# Altium integrated library Cypress Clocks & Buffers Clock Distribution.IntLib: 321 symbols (part 25 of 25)
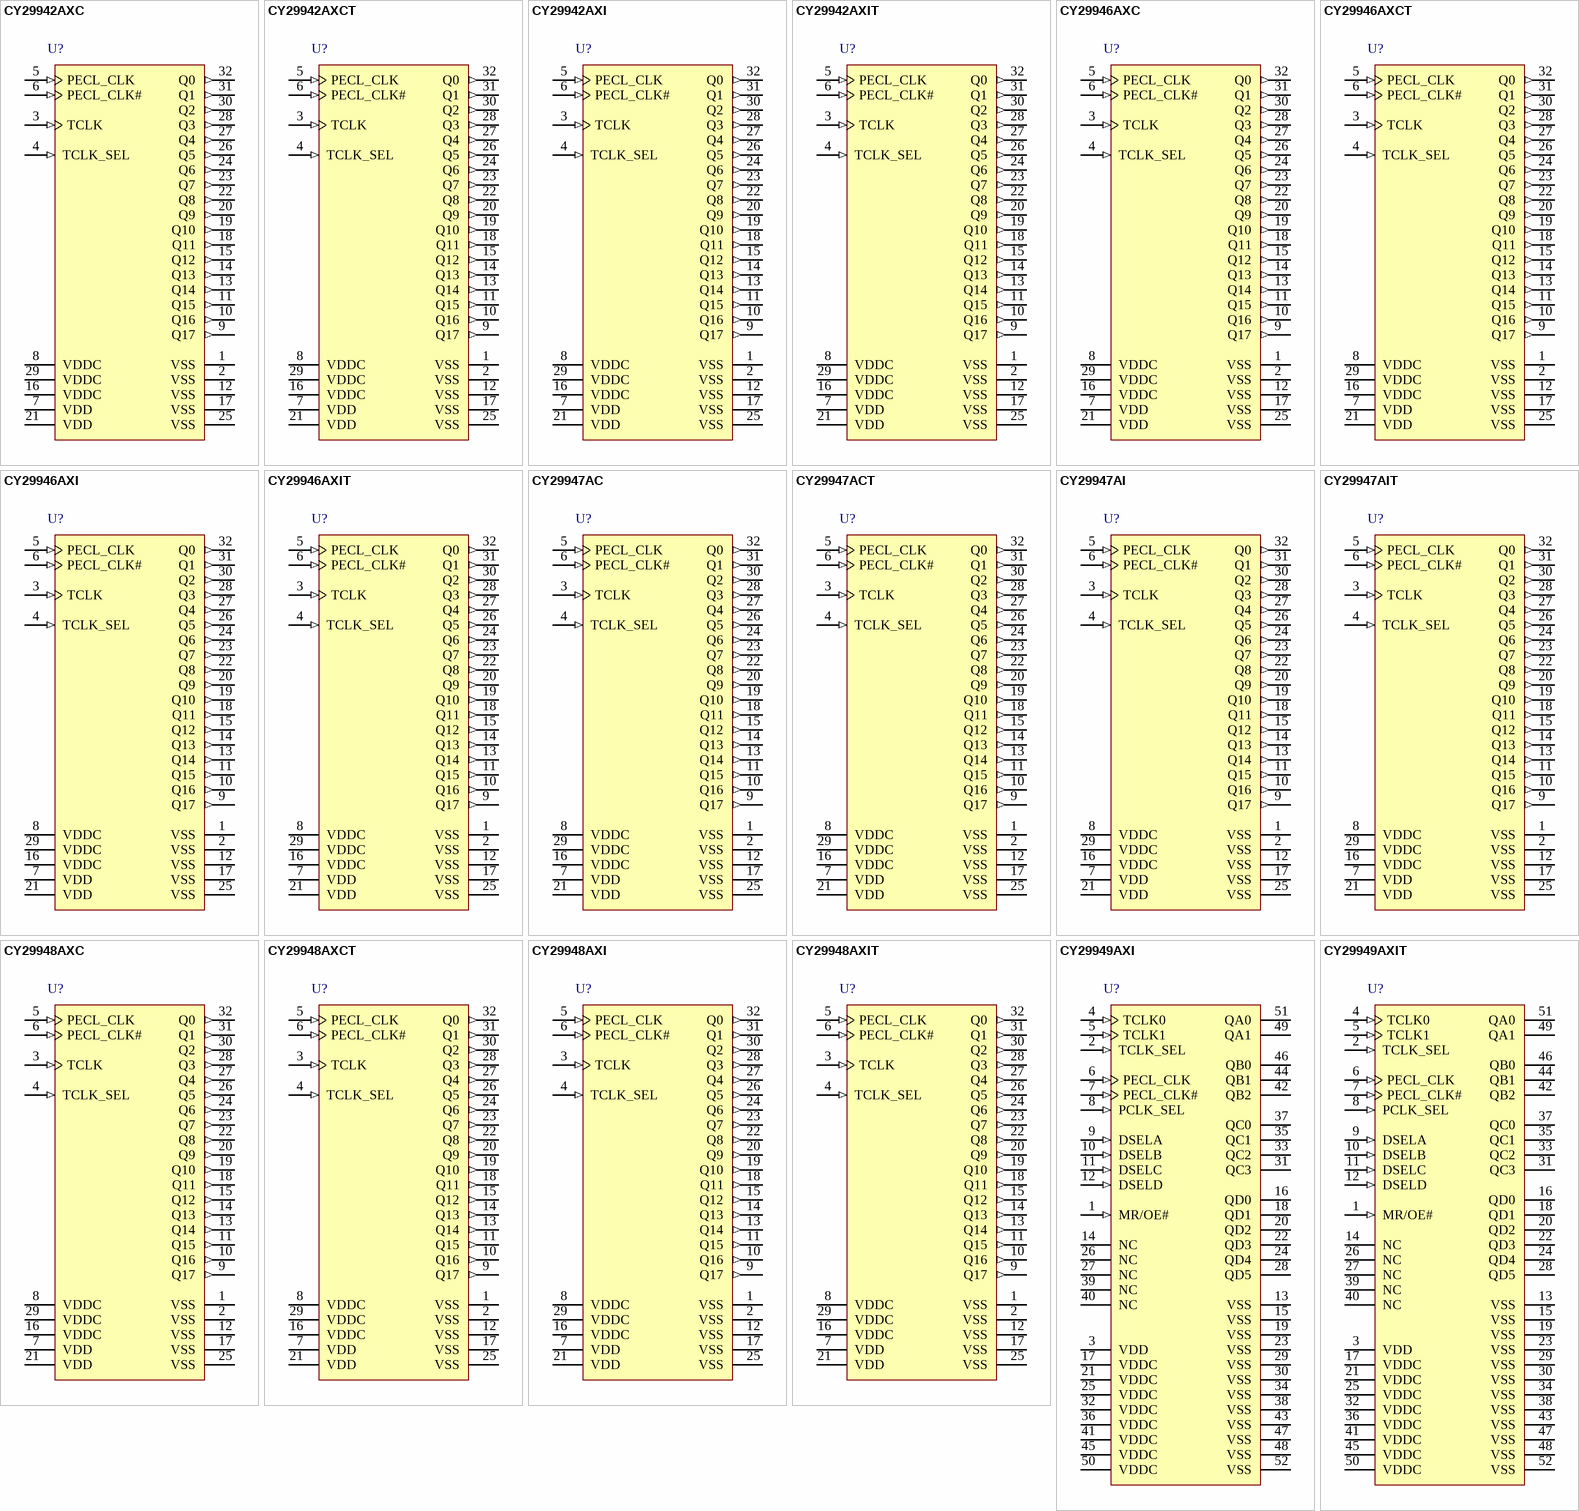
[diagram p40: symbols CY29942AXC to CY29949AXIT]

## CY29949AXI
designator U?
1:15 Clock Distribution Buffer, 2.5 / 3.3 V, 15 Outputs, 200 MHz Maximum, -40 to 85 degC, 52-Pin PLCC (AX52), Tube; Manufacturer: Cypress; PartNumber: CY29949AXI; Input Frequency Max. (MHz): 200; Max. Operating Voltage (V): 3.465; Min. Operating Voltage (V): 2.375; No. of Outputs: 15; DatasheetVersion: Rev. *B; PackageVersion: Rev. *B; PackageReference: AX52; PackageDescription: 52-Pin Thin Plastic Quad Flat Pack, Body 10 x 10 mm, Pitch 0.65 mm; Supplier 1: Digi-Key; Supplier Part Number 1: CY29949AXI-ND; Supplier 2: Mouser; Supplier Part Number 2: 727-CY29949AXI; Max. Operating Temp. (degreesC): 85; Min. Operating Temp. (degreesC): -40; Output Frequency Max. (MHz): 200; Packing: Tube; RoHS: Pb-Free; Mounting Technology: Surface Mount; ComponentLink1Description: Manufacturer URL; ComponentLink1URL: http://www.cypress.com/; ComponentLink2Description: Datasheet; ComponentLink2URL: http://www.cypress.com/?docID=31957; ComponentLink3Description: Package Specification; ComponentLink3URL: http://www.cypress.com/?docID=31957
footprint CYP-AX52_N (QFP, 52-Leads, Body 10x10mm, Pitch 0.65mm, IPC Medium Density)
footprint CYP-AX52_L (QFP, 52-Leads, Body 10x10mm, Pitch 0.65mm, IPC High Density)
footprint CYP-AX52_M (QFP, 52-Leads, Body 10x10mm, Pitch 0.65mm, IPC Low Density)
pins: 1 MR/OE# (in) "Output Enable Input. When asserted LOW, the outputs are enabled and when asserted HIGH, internal flip-flops are reset and the outputs are three-stated. If more than one bank is used in /2 mode, a reset must be performed (See Datasheet)", 2 TCLK_SEL (in) "TCLK Select Input. When LOW, TCLK0 clock is selected and when HIGH TCLK1 is selected.", 3 VDD (power) "2.5 V or 3.3 V Power Supply", 4 TCLK0 (in) "External Reference/Test Clock Input", 5 TCLK1 (in) "External Reference/Test Clock Input", 6 PECL_CLK (in) "PECL Input Clock", 7 PECL_CLK# (in) "PECL Input Clock", 8 PCLK_SEL (in) "PECL Select Input. When HIGH, PECL clock is selected and when LOW TCLK(0,1) is selected", 9 DSELA (in) "Divider Select Inputs. When HIGH, selects /2 input divider. When LOW, selects /1 input divider.", 10 DSELB (in) "Divider Select Inputs. When HIGH, selects /2 input divider. When LOW, selects /1 input divider.", 11 DSELC (in) "Divider Select Inputs. When HIGH, selects /2 input divider. When LOW, selects /1 input divider.", 12 DSELD (in) "Divider Select Inputs. When HIGH, selects /2 input divider. When LOW, selects /1 input divider.", 13 VSS (power) "Common Ground", 14 NC "Not Connected", 15 VSS (power) "Common Ground", 16 QD0 (hiz) "Clock Outputs", 17 VDDC (power) "2.5 V or 3.3 V Power Supply for Output Clock Buffers", 18 QD1 (hiz) "Clock Outputs", 19 VSS (power) "Common Ground", 20 QD2 (hiz) "Clock Outputs", 21 VDDC (power) "2.5 V or 3.3 V Power Supply for Output Clock Buffers", 22 QD3 (hiz) "Clock Outputs", 23 VSS (power) "Common Ground", 24 QD4 (hiz) "Clock Outputs", 25 VDDC (power) "2.5 V or 3.3 V Power Supply for Output Clock Buffers", 26 NC "Not Connected", 27 NC "Not Connected", 28 QD5 (hiz) "Clock Outputs", 29 VSS (power) "Common Ground", 30 VSS (power) "Common Ground", 31 QC3 (hiz) "Clock Outputs", 32 VDDC (power) "2.5 V or 3.3 V Power Supply for Output Clock Buffers", 33 QC2 (hiz) "Clock Outputs", 34 VSS (power) "Common Ground", 35 QC1 (hiz) "Clock Outputs", 36 VDDC (power) "2.5 V or 3.3 V Power Supply for Output Clock Buffers", 37 QC0 (hiz) "Clock Outputs", 38 VSS (power) "Common Ground", 39 NC "Not Connected", 40 NC "Not Connected", 41 VDDC (power) "2.5 V or 3.3 V Power Supply for Output Clock Buffers", 42 QB2 (hiz) "Clock Outputs", 43 VSS (power) "Common Ground", 44 QB1 (hiz) "Clock Outputs", 45 VDDC (power) "2.5 V or 3.3 V Power Supply for Output Clock Buffers", 46 QB0 (hiz) "Clock Outputs", 47 VSS (power) "Common Ground", 48 VSS (power) "Common Ground", 49 QA1 (hiz) "Clock Outputs", 50 VDDC (power) "2.5 V or 3.3 V Power Supply for Output Clock Buffers", 51 QA0 (hiz) "Clock Outputs", 52 VSS (power) "Common Ground"

## CY29949AXIT
designator U?
1:15 Clock Distribution Buffer, 2.5 / 3.3 V, 15 Outputs, 200 MHz Maximum, -40 to 85 degC, 52-Pin PLCC (AX52), Tape and Reel; Manufacturer: Cypress; PartNumber: CY29949AXIT; Input Frequency Max. (MHz): 200; Max. Operating Voltage (V): 3.465; Min. Operating Voltage (V): 2.375; No. of Outputs: 15; DatasheetVersion: Rev. *B; PackageVersion: Rev. *B; PackageReference: AX52; PackageDescription: 52-Pin Thin Plastic Quad Flat Pack, Body 10 x 10 mm, Pitch 0.65 mm; Supplier 1: Digi-Key; Supplier Part Number 1: CY29949AXIT-ND; Supplier 2: Mouser; Supplier Part Number 2: 727-CY29949AXIT; Max. Operating Temp. (degreesC): 85; Min. Operating Temp. (degreesC): -40; Output Frequency Max. (MHz): 200; Packing: Tape and Reel; RoHS: Pb-Free; Mounting Technology: Surface Mount; ComponentLink1Description: Manufacturer URL; ComponentLink1URL: http://www.cypress.com/; ComponentLink2Description: Datasheet; ComponentLink2URL: http://www.cypress.com/?docID=31957; ComponentLink3Description: Package Specification; ComponentLink3URL: http://www.cypress.com/?docID=31957
footprint CYP-AX52_N (QFP, 52-Leads, Body 10x10mm, Pitch 0.65mm, IPC Medium Density)
footprint CYP-AX52_L (QFP, 52-Leads, Body 10x10mm, Pitch 0.65mm, IPC High Density)
footprint CYP-AX52_M (QFP, 52-Leads, Body 10x10mm, Pitch 0.65mm, IPC Low Density)
pins: 1 MR/OE# (in) "Output Enable Input. When asserted LOW, the outputs are enabled and when asserted HIGH, internal flip-flops are reset and the outputs are three-stated. If more than one bank is used in /2 mode, a reset must be performed (See Datasheet)", 2 TCLK_SEL (in) "TCLK Select Input. When LOW, TCLK0 clock is selected and when HIGH TCLK1 is selected.", 3 VDD (power) "2.5 V or 3.3 V Power Supply", 4 TCLK0 (in) "External Reference/Test Clock Input", 5 TCLK1 (in) "External Reference/Test Clock Input", 6 PECL_CLK (in) "PECL Input Clock", 7 PECL_CLK# (in) "PECL Input Clock", 8 PCLK_SEL (in) "PECL Select Input. When HIGH, PECL clock is selected and when LOW TCLK(0,1) is selected", 9 DSELA (in) "Divider Select Inputs. When HIGH, selects /2 input divider. When LOW, selects /1 input divider.", 10 DSELB (in) "Divider Select Inputs. When HIGH, selects /2 input divider. When LOW, selects /1 input divider.", 11 DSELC (in) "Divider Select Inputs. When HIGH, selects /2 input divider. When LOW, selects /1 input divider.", 12 DSELD (in) "Divider Select Inputs. When HIGH, selects /2 input divider. When LOW, selects /1 input divider.", 13 VSS (power) "Common Ground", 14 NC "Not Connected", 15 VSS (power) "Common Ground", 16 QD0 (hiz) "Clock Outputs", 17 VDDC (power) "2.5 V or 3.3 V Power Supply for Output Clock Buffers", 18 QD1 (hiz) "Clock Outputs", 19 VSS (power) "Common Ground", 20 QD2 (hiz) "Clock Outputs", 21 VDDC (power) "2.5 V or 3.3 V Power Supply for Output Clock Buffers", 22 QD3 (hiz) "Clock Outputs", 23 VSS (power) "Common Ground", 24 QD4 (hiz) "Clock Outputs", 25 VDDC (power) "2.5 V or 3.3 V Power Supply for Output Clock Buffers", 26 NC "Not Connected", 27 NC "Not Connected", 28 QD5 (hiz) "Clock Outputs", 29 VSS (power) "Common Ground", 30 VSS (power) "Common Ground", 31 QC3 (hiz) "Clock Outputs", 32 VDDC (power) "2.5 V or 3.3 V Power Supply for Output Clock Buffers", 33 QC2 (hiz) "Clock Outputs", 34 VSS (power) "Common Ground", 35 QC1 (hiz) "Clock Outputs", 36 VDDC (power) "2.5 V or 3.3 V Power Supply for Output Clock Buffers", 37 QC0 (hiz) "Clock Outputs", 38 VSS (power) "Common Ground", 39 NC "Not Connected", 40 NC "Not Connected", 41 VDDC (power) "2.5 V or 3.3 V Power Supply for Output Clock Buffers", 42 QB2 (hiz) "Clock Outputs", 43 VSS (power) "Common Ground", 44 QB1 (hiz) "Clock Outputs", 45 VDDC (power) "2.5 V or 3.3 V Power Supply for Output Clock Buffers", 46 QB0 (hiz) "Clock Outputs", 47 VSS (power) "Common Ground", 48 VSS (power) "Common Ground", 49 QA1 (hiz) "Clock Outputs", 50 VDDC (power) "2.5 V or 3.3 V Power Supply for Output Clock Buffers", 51 QA0 (hiz) "Clock Outputs", 52 VSS (power) "Common Ground"

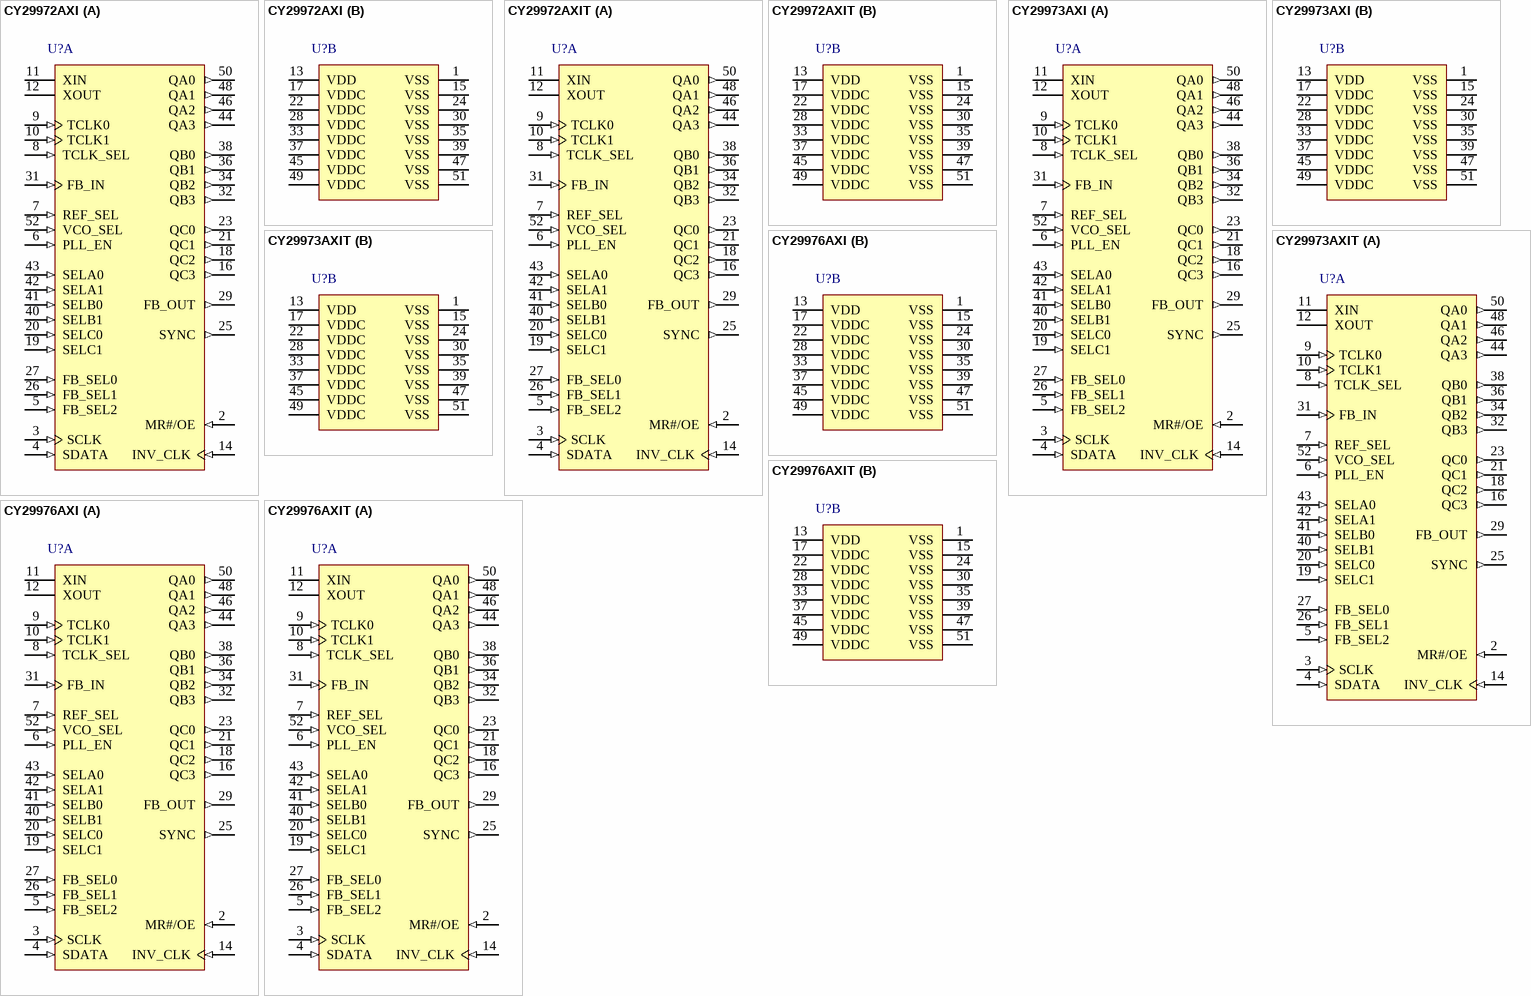
[diagram p16: symbols CY29972AXI to CY29976AXIT]

## CY29972AXI
designator U?
Multi-Output Zero Delay Buffer, 3.3 V, 12 Outputs, 125 MHz Maximum, -40 to 85 degC, 52-Pin PLCC (AX52), Tube; Manufacturer: Cypress; PartNumber: CY29972AXI; Max. Operating Voltage (V): 3.465; Min. Operating Voltage (V): 2.375; No. of Outputs: 12; Output Frequency Max. (MHz): 125; DatasheetVersion: Rev. *F; PackageVersion: Rev. *C, 08/2012; PackageReference: AX52; PackageDescription: 52-Pin Thin Plastic Quad Flatpack, Body 10 x10 mm, Pitch 0.65 mm; Supplier 1: Digi-Key; Supplier Part Number 1: 428-2236-ND; Supplier 2: Mouser; Supplier Part Number 2: 727-CY29972AXI; Max. Operating Temp. (degreesC): 85; Min. Operating Temp. (degreesC): -40; Packing: Tube; RoHS: Pb-Free; Mounting Technology: Surface Mount; ComponentLink1Description: Manufacturer URL; ComponentLink1URL: http://www.cypress.com/; ComponentLink2Description: Datasheet; ComponentLink2URL: http://www.cypress.com/?docID=47413; ComponentLink3Description: Package Specification; ComponentLink3URL: http://www.cypress.com/?docID=39099
footprint CYP-AX52-51-85131_N (QFP, 52-Leads, Body 10x10mm, Pitch 0.65mm, IPC Medium Density)
footprint CYP-AX52-51-85131_L (QFP, 52-Leads, Body 10x10mm, Pitch 0.65mm, IPC High Density)
footprint CYP-AX52-51-85131_M (QFP, 52-Leads, Body 10x10mm, Pitch 0.65mm, IPC Low Density)
part A pins: 2 MR#/OE (in) "Master reset/output enable input. When asserted LOW, resets all of the internal flip-flops and also disables all of the outputs. When pulled high, releases the internal flip-flops from reset and enables all of the outputs.", 3 SCLK (in) "Serial clock input. Clocks data at SDATA into the internal register.", 4 SDATA (in) "Serial data input. Input data is clocked to the internal register to enable/disable individual outputs. This provides flexibility in power management.", 5 FB_SEL2 (in) "Feedback select inputs. These inputs select the divide ratio at FB_OUT output. See Table 1 on page 1.", 6 PLL_EN (in) "PLL enable input. When asserted HIGH, PLL is enabled; when LOW, PLL is bypassed.", 7 REF_SEL (in) "Reference select input. When HIGH, the crystal oscillator is selected; when LOW, TCLK (0,1) is the reference clock.", 8 TCLK_SEL (in) "TCLK select input. When LOW, TCLK0 is selected and when HIGH TCLK1 is selected.", 9 TCLK0 (in) "External reference/test clock input.", 10 TCLK1 (in) "External reference/test clock input.", 11 XIN "Oscillator input. Connect to a crystal.", 12 XOUT "Oscillator output. Connect to a crystal.", 14 INV_CLK (in) "Inverted clock input. When set HIGH, QC(2,3) outputs are inverted. When set LOW, the inverter is bypassed.", 16 QC3 (out) "Clock outputs. See Table 2 on page 5 for frequency selections.", 18 QC2 (out) "Clock outputs. See Table 2 on page 5 for frequency selections.", 19 SELC1 (in) "Frequency select inputs. These inputs select the divider ratio at QC(0:3) outputs. See Table 2 on page 5.", 20 SELC0 (in) "Frequency select inputs. These inputs select the divider ratio at QC(0:3) outputs. See Table 2 on page 5.", 21 QC1 (out) "Clock outputs. See Table 2 on page 5 for frequency selections.", 23 QC0 (out) "Clock outputs. See Table 2 on page 5 for frequency selections.", 25 SYNC (out) "Synchronous pulse output. This output is used for system synchronization. The rising edge of the output pulse is in sync with both the rising edges of QA(0:3) and QC(0:3) output clocks regardless of the divider ratios (See Datasheet)", 26 FB_SEL1 (in) "Feedback select inputs. These inputs select the divide ratio at FB_OUT output. See Table 1 on page 1.", 27 FB_SEL0 (in) "Feedback select inputs. These inputs select the divide ratio at FB_OUT output. See Table 1 on page 1.", 29 FB_OUT (out) "Feedback clock output. Connect to FB_IN for normal operation. The divider ratio for this output is set by FB_SEL(0:2). See Table 1 on page 1. A bypass delay capacitor at this output will control Input Reference/ Output Banks (See Datasheet)", 31 FB_IN (in) "Feedback clock input. Connect to FB_OUT for accessing the PLL.", 32 QB3 (out) "Clock outputs. See Table 2 on page 5 for frequency selections.", 34 QB2 (out) "Clock outputs. See Table 2 on page 5 for frequency selections.", 36 QB1 (out) "Clock outputs. See Table 2 on page 5 for frequency selections.", 38 QB0 (out) "Clock outputs. See Table 2 on page 5 for frequency selections.", 40 SELB1 (in) "Frequency select inputs. These inputs select the divider ratio at QB(0:3) outputs. See Table 2 on page 5.", 41 SELB0 (in) "Frequency select inputs. These inputs select the divider ratio at QB(0:3) outputs. See Table 2 on page 5.", 42 SELA1 (in) "Frequency select inputs. These inputs select the divider ratio at QA(0:3) outputs. See Table 2 on page 5.", 43 SELA0 (in) "Frequency select inputs. These inputs select the divider ratio at QA(0:3) outputs. See Table 2 on page 5.", 44 QA3 (out) "Clock outputs. See Table 2 on page 5 for frequency selections.", 46 QA2 (out) "Clock outputs. See Table 2 on page 5 for frequency selections.", 48 QA1 (out) "Clock outputs. See Table 2 on page 5 for frequency selections.", 50 QA0 (out) "Clock outputs. See Table 2 on page 5 for frequency selections.", 52 VCO_SEL (in) "VCO divider select input. When set LOW, the VCO output is divided by 2. When set HIGH, the divider is bypassed. See Table 1 on page 1."
part B pins: 1 VSS (power) "Common ground.", 13 VDD (power) "3.3 V power supply for PLL.", 15 VSS (power) "Common ground.", 17 VDDC (power) "3.3 V power supply for output clock buffers.", 22 VDDC (power) "3.3 V power supply for output clock buffers.", 24 VSS (power) "Common ground.", 28 VDDC (power) "3.3 V power supply for output clock buffers.", 30 VSS (power) "Common ground.", 33 VDDC (power) "3.3 V power supply for output clock buffers.", 35 VSS (power) "Common ground.", 37 VDDC (power) "3.3 V power supply for output clock buffers.", 39 VSS (power) "Common ground.", 45 VDDC (power) "3.3 V power supply for output clock buffers.", 47 VSS (power) "Common ground.", 49 VDDC (power) "3.3 V power supply for output clock buffers.", 51 VSS (power) "Common ground."

## CY29972AXIT
designator U?
Multi-Output Zero Delay Buffer, 3.3 V, 12 Outputs, 125 MHz Maximum, -40 to 85 degC, 52-Pin PLCC (AX52), Tape and Reel; Manufacturer: Cypress; PartNumber: CY29972AXIT; Max. Operating Voltage (V): 3.465; Min. Operating Voltage (V): 2.375; No. of Outputs: 12; Output Frequency Max. (MHz): 125; DatasheetVersion: Rev. *F; PackageVersion: Rev. *C, 08/2012; PackageReference: AX52; PackageDescription: 52-Pin Thin Plastic Quad Flatpack, Body 10 x10 mm, Pitch 0.65 mm; Supplier 1: Digi-Key; Supplier Part Number 1: CY29972AXIT-ND; Supplier 2: Mouser; Supplier Part Number 2: 727-CY29972AXIT; Max. Operating Temp. (degreesC): 85; Min. Operating Temp. (degreesC): -40; Packing: Tape and Reel; RoHS: Pb-Free; Mounting Technology: Surface Mount; ComponentLink1Description: Manufacturer URL; ComponentLink1URL: http://www.cypress.com/; ComponentLink2Description: Datasheet; ComponentLink2URL: http://www.cypress.com/?docID=47413; ComponentLink3Description: Package Specification; ComponentLink3URL: http://www.cypress.com/?docID=39099
footprint CYP-AX52-51-85131_N (QFP, 52-Leads, Body 10x10mm, Pitch 0.65mm, IPC Medium Density)
footprint CYP-AX52-51-85131_L (QFP, 52-Leads, Body 10x10mm, Pitch 0.65mm, IPC High Density)
footprint CYP-AX52-51-85131_M (QFP, 52-Leads, Body 10x10mm, Pitch 0.65mm, IPC Low Density)
part A pins: 2 MR#/OE (in) "Master reset/output enable input. When asserted LOW, resets all of the internal flip-flops and also disables all of the outputs. When pulled high, releases the internal flip-flops from reset and enables all of the outputs.", 3 SCLK (in) "Serial clock input. Clocks data at SDATA into the internal register.", 4 SDATA (in) "Serial data input. Input data is clocked to the internal register to enable/disable individual outputs. This provides flexibility in power management.", 5 FB_SEL2 (in) "Feedback select inputs. These inputs select the divide ratio at FB_OUT output. See Table 1 on page 1.", 6 PLL_EN (in) "PLL enable input. When asserted HIGH, PLL is enabled; when LOW, PLL is bypassed.", 7 REF_SEL (in) "Reference select input. When HIGH, the crystal oscillator is selected; when LOW, TCLK (0,1) is the reference clock.", 8 TCLK_SEL (in) "TCLK select input. When LOW, TCLK0 is selected and when HIGH TCLK1 is selected.", 9 TCLK0 (in) "External reference/test clock input.", 10 TCLK1 (in) "External reference/test clock input.", 11 XIN "Oscillator input. Connect to a crystal.", 12 XOUT "Oscillator output. Connect to a crystal.", 14 INV_CLK (in) "Inverted clock input. When set HIGH, QC(2,3) outputs are inverted. When set LOW, the inverter is bypassed.", 16 QC3 (out) "Clock outputs. See Table 2 on page 5 for frequency selections.", 18 QC2 (out) "Clock outputs. See Table 2 on page 5 for frequency selections.", 19 SELC1 (in) "Frequency select inputs. These inputs select the divider ratio at QC(0:3) outputs. See Table 2 on page 5.", 20 SELC0 (in) "Frequency select inputs. These inputs select the divider ratio at QC(0:3) outputs. See Table 2 on page 5.", 21 QC1 (out) "Clock outputs. See Table 2 on page 5 for frequency selections.", 23 QC0 (out) "Clock outputs. See Table 2 on page 5 for frequency selections.", 25 SYNC (out) "Synchronous pulse output. This output is used for system synchronization. The rising edge of the output pulse is in sync with both the rising edges of QA(0:3) and QC(0:3) output clocks regardless of the divider ratios (See Datasheet)", 26 FB_SEL1 (in) "Feedback select inputs. These inputs select the divide ratio at FB_OUT output. See Table 1 on page 1.", 27 FB_SEL0 (in) "Feedback select inputs. These inputs select the divide ratio at FB_OUT output. See Table 1 on page 1.", 29 FB_OUT (out) "Feedback clock output. Connect to FB_IN for normal operation. The divider ratio for this output is set by FB_SEL(0:2). See Table 1 on page 1. A bypass delay capacitor at this output will control Input Reference/ Output Banks (See Datasheet)", 31 FB_IN (in) "Feedback clock input. Connect to FB_OUT for accessing the PLL.", 32 QB3 (out) "Clock outputs. See Table 2 on page 5 for frequency selections.", 34 QB2 (out) "Clock outputs. See Table 2 on page 5 for frequency selections.", 36 QB1 (out) "Clock outputs. See Table 2 on page 5 for frequency selections.", 38 QB0 (out) "Clock outputs. See Table 2 on page 5 for frequency selections.", 40 SELB1 (in) "Frequency select inputs. These inputs select the divider ratio at QB(0:3) outputs. See Table 2 on page 5.", 41 SELB0 (in) "Frequency select inputs. These inputs select the divider ratio at QB(0:3) outputs. See Table 2 on page 5.", 42 SELA1 (in) "Frequency select inputs. These inputs select the divider ratio at QA(0:3) outputs. See Table 2 on page 5.", 43 SELA0 (in) "Frequency select inputs. These inputs select the divider ratio at QA(0:3) outputs. See Table 2 on page 5.", 44 QA3 (out) "Clock outputs. See Table 2 on page 5 for frequency selections.", 46 QA2 (out) "Clock outputs. See Table 2 on page 5 for frequency selections.", 48 QA1 (out) "Clock outputs. See Table 2 on page 5 for frequency selections.", 50 QA0 (out) "Clock outputs. See Table 2 on page 5 for frequency selections.", 52 VCO_SEL (in) "VCO divider select input. When set LOW, the VCO output is divided by 2. When set HIGH, the divider is bypassed. See Table 1 on page 1."
part B pins: 1 VSS (power) "Common ground.", 13 VDD (power) "3.3 V power supply for PLL.", 15 VSS (power) "Common ground.", 17 VDDC (power) "3.3 V power supply for output clock buffers.", 22 VDDC (power) "3.3 V power supply for output clock buffers.", 24 VSS (power) "Common ground.", 28 VDDC (power) "3.3 V power supply for output clock buffers.", 30 VSS (power) "Common ground.", 33 VDDC (power) "3.3 V power supply for output clock buffers.", 35 VSS (power) "Common ground.", 37 VDDC (power) "3.3 V power supply for output clock buffers.", 39 VSS (power) "Common ground.", 45 VDDC (power) "3.3 V power supply for output clock buffers.", 47 VSS (power) "Common ground.", 49 VDDC (power) "3.3 V power supply for output clock buffers.", 51 VSS (power) "Common ground."

## CY29973AXI
designator U?
Multi-Output Zero Delay Buffer, 3.3 V, 12 Outputs, 125 MHz Maximum, -40 to 85 degC, 52-Pin PLCC (AX52), Tray; Manufacturer: Cypress; PartNumber: CY29973AXI; Input Frequency Max. (MHz): 125; Max. Operating Voltage (V): 3.6; Min. Operating Voltage (V): 2.9; No. of Outputs: 12; DatasheetVersion: Rev. *F; PackageVersion: Rev. *B; PackageReference: AX52; PackageDescription: 52-Pin Thin Plastic Quad Flat Pack, Body 10 x 10 mm, Pitch 0.65 mm; Supplier 1: Digi-Key; Supplier Part Number 1: CY29973AXI-ND; Supplier 2: Mouser; Supplier Part Number 2: 727-CY29973AXI; Max. Operating Temp. (degreesC): 85; Min. Operating Temp. (degreesC): -40; Output Frequency Max. (MHz): 125; Packing: Tray; RoHS: Pb-Free; Mounting Technology: Surface Mount; ComponentLink1Description: Manufacturer URL; ComponentLink1URL: http://www.cypress.com/; ComponentLink2Description: Datasheet; ComponentLink2URL: http://www.cypress.com/?docID=48482; ComponentLink3Description: Package Specification; ComponentLink3URL: http://www.cypress.com/?docID=31957
footprint CYP-AX52_N (QFP, 52-Leads, Body 10x10mm, Pitch 0.65mm, IPC Medium Density)
footprint CYP-AX52_L (QFP, 52-Leads, Body 10x10mm, Pitch 0.65mm, IPC High Density)
footprint CYP-AX52_M (QFP, 52-Leads, Body 10x10mm, Pitch 0.65mm, IPC Low Density)
part A pins: 2 MR#/OE (in) "Master reset/output enable input. When asserted LOW, resets all of the internal flip-flops and also disables all of the outputs. When pulled high, releases the internal flip-flops from reset and enables all of the outputs.", 3 SCLK (in) "Serial clock input. Clocks data at SDATA into the internal register.", 4 SDATA (in) "Serial data input. Input data is clocked to the internal register to enable/disable individual outputs. This provides flexibility in power management.", 5 FB_SEL2 (in) "Feedback select inputs. These inputs select the divide ratio at FB_OUT output. See Table 1 on page 1.", 6 PLL_EN (in) "PLL enable input. When asserted HIGH, PLL is enabled; when LOW, PLL is bypassed.", 7 REF_SEL (in) "Reference select input. When HIGH, the crystal oscillator is selected; when LOW, TCLK (0,1) is the reference clock.", 8 TCLK_SEL (in) "TCLK select input. When LOW, TCLK0 is selected and when HIGH TCLK1 is selected.", 9 TCLK0 (in) "External reference/test clock input.", 10 TCLK1 (in) "External reference/test clock input.", 11 XIN "Oscillator input. Connect to a crystal.", 12 XOUT "Oscillator output. Connect to a crystal.", 14 INV_CLK (in) "Inverted clock input. When set HIGH, QC(2,3) outputs are inverted. When set LOW, the inverter is bypassed.", 16 QC3 (out) "Clock outputs. See Table 2 on page 5 for frequency selections.", 18 QC2 (out) "Clock outputs. See Table 2 on page 5 for frequency selections.", 19 SELC1 (in) "Frequency select inputs. These inputs select the divider ratio at QC(0:3) outputs. See Table 2 on page 5.", 20 SELC0 (in) "Frequency select inputs. These inputs select the divider ratio at QC(0:3) outputs. See Table 2 on page 5.", 21 QC1 (out) "Clock outputs. See Table 2 on page 5 for frequency selections.", 23 QC0 (out) "Clock outputs. See Table 2 on page 5 for frequency selections.", 25 SYNC (out) "Synchronous pulse output. This output is used for system synchronization. The rising edge of the output pulse is in sync with both the rising edges of QA(0:3) and QC(0:3) output clocks regardless of the divider ratios (See Datasheet)", 26 FB_SEL1 (in) "Feedback select inputs. These inputs select the divide ratio at FB_OUT output. See Table 1 on page 1.", 27 FB_SEL0 (in) "Feedback select inputs. These inputs select the divide ratio at FB_OUT output. See Table 1 on page 1.", 29 FB_OUT (out) "Feedback clock output. Connect to FB_IN for normal operation. The divider ratio for this output is set by FB_SEL(0:2). See Table 1 on page 1. A bypass delay capacitor at this output will control Input Reference/ Output Banks (See Datasheet)", 31 FB_IN (in) "Feedback clock input. Connect to FB_OUT for accessing the PLL.", 32 QB3 (out) "Clock outputs. See Table 2 on page 5 for frequency selections.", 34 QB2 (out) "Clock outputs. See Table 2 on page 5 for frequency selections.", 36 QB1 (out) "Clock outputs. See Table 2 on page 5 for frequency selections.", 38 QB0 (out) "Clock outputs. See Table 2 on page 5 for frequency selections.", 40 SELB1 (in) "Frequency select inputs. These inputs select the divider ratio at QB(0:3) outputs. See Table 2 on page 5.", 41 SELB0 (in) "Frequency select inputs. These inputs select the divider ratio at QB(0:3) outputs. See Table 2 on page 5.", 42 SELA1 (in) "Frequency select inputs. These inputs select the divider ratio at QA(0:3) outputs. See Table 2 on page 5.", 43 SELA0 (in) "Frequency select inputs. These inputs select the divider ratio at QA(0:3) outputs. See Table 2 on page 5.", 44 QA3 (out) "Clock outputs. See Table 2 on page 5 for frequency selections.", 46 QA2 (out) "Clock outputs. See Table 2 on page 5 for frequency selections.", 48 QA1 (out) "Clock outputs. See Table 2 on page 5 for frequency selections.", 50 QA0 (out) "Clock outputs. See Table 2 on page 5 for frequency selections.", 52 VCO_SEL (in) "VCO divider select input. When set LOW, the VCO output is divided by 2. When set HIGH, the divider is bypassed. See Table 1 on page 1."
part B pins: 1 VSS (power) "Common ground.", 13 VDD (power) "3.3 V power supply for PLL.", 15 VSS (power) "Common ground.", 17 VDDC (power) "3.3 V power supply for output clock buffers.", 22 VDDC (power) "3.3 V power supply for output clock buffers.", 24 VSS (power) "Common ground.", 28 VDDC (power) "3.3 V power supply for output clock buffers.", 30 VSS (power) "Common ground.", 33 VDDC (power) "3.3 V power supply for output clock buffers.", 35 VSS (power) "Common ground.", 37 VDDC (power) "3.3 V power supply for output clock buffers.", 39 VSS (power) "Common ground.", 45 VDDC (power) "3.3 V power supply for output clock buffers.", 47 VSS (power) "Common ground.", 49 VDDC (power) "3.3 V power supply for output clock buffers.", 51 VSS (power) "Common ground."

## CY29973AXIT
designator U?
Multi-Output Zero Delay Buffer, 3.3 V, 12 Outputs, 125 MHz Maximum, -40 to 85 degC, 52-Pin PLCC (AX52), Tape and Reel; Manufacturer: Cypress; PartNumber: CY29973AXIT; Input Frequency Max. (MHz): 125; Max. Operating Voltage (V): 3.6; Min. Operating Voltage (V): 2.9; No. of Outputs: 12; DatasheetVersion: Rev. *F; PackageVersion: Rev. *B; PackageReference: AX52; PackageDescription: 52-Pin Thin Plastic Quad Flat Pack, Body 10 x 10 mm, Pitch 0.65 mm; Supplier 1: Digi-Key; Supplier Part Number 1: CY29973AXIT-ND; Supplier 2: Mouser; Supplier Part Number 2: 727-CY29973AXIT; Max. Operating Temp. (degreesC): 85; Min. Operating Temp. (degreesC): -40; Output Frequency Max. (MHz): 125; Packing: Tape and Reel; RoHS: Pb-Free; Mounting Technology: Surface Mount; ComponentLink1Description: Manufacturer URL; ComponentLink1URL: http://www.cypress.com/; ComponentLink2Description: Datasheet; ComponentLink2URL: http://www.cypress.com/?docID=48482; ComponentLink3Description: Package Specification; ComponentLink3URL: http://www.cypress.com/?docID=31957
footprint CYP-AX52_N (QFP, 52-Leads, Body 10x10mm, Pitch 0.65mm, IPC Medium Density)
footprint CYP-AX52_L (QFP, 52-Leads, Body 10x10mm, Pitch 0.65mm, IPC High Density)
footprint CYP-AX52_M (QFP, 52-Leads, Body 10x10mm, Pitch 0.65mm, IPC Low Density)
part A pins: 2 MR#/OE (in) "Master reset/output enable input. When asserted LOW, resets all of the internal flip-flops and also disables all of the outputs. When pulled high, releases the internal flip-flops from reset and enables all of the outputs.", 3 SCLK (in) "Serial clock input. Clocks data at SDATA into the internal register.", 4 SDATA (in) "Serial data input. Input data is clocked to the internal register to enable/disable individual outputs. This provides flexibility in power management.", 5 FB_SEL2 (in) "Feedback select inputs. These inputs select the divide ratio at FB_OUT output. See Table 1 on page 1.", 6 PLL_EN (in) "PLL enable input. When asserted HIGH, PLL is enabled; when LOW, PLL is bypassed.", 7 REF_SEL (in) "Reference select input. When HIGH, the crystal oscillator is selected; when LOW, TCLK (0,1) is the reference clock.", 8 TCLK_SEL (in) "TCLK select input. When LOW, TCLK0 is selected and when HIGH TCLK1 is selected.", 9 TCLK0 (in) "External reference/test clock input.", 10 TCLK1 (in) "External reference/test clock input.", 11 XIN "Oscillator input. Connect to a crystal.", 12 XOUT "Oscillator output. Connect to a crystal.", 14 INV_CLK (in) "Inverted clock input. When set HIGH, QC(2,3) outputs are inverted. When set LOW, the inverter is bypassed.", 16 QC3 (out) "Clock outputs. See Table 2 on page 5 for frequency selections.", 18 QC2 (out) "Clock outputs. See Table 2 on page 5 for frequency selections.", 19 SELC1 (in) "Frequency select inputs. These inputs select the divider ratio at QC(0:3) outputs. See Table 2 on page 5.", 20 SELC0 (in) "Frequency select inputs. These inputs select the divider ratio at QC(0:3) outputs. See Table 2 on page 5.", 21 QC1 (out) "Clock outputs. See Table 2 on page 5 for frequency selections.", 23 QC0 (out) "Clock outputs. See Table 2 on page 5 for frequency selections.", 25 SYNC (out) "Synchronous pulse output. This output is used for system synchronization. The rising edge of the output pulse is in sync with both the rising edges of QA(0:3) and QC(0:3) output clocks regardless of the divider ratios (See Datasheet)", 26 FB_SEL1 (in) "Feedback select inputs. These inputs select the divide ratio at FB_OUT output. See Table 1 on page 1.", 27 FB_SEL0 (in) "Feedback select inputs. These inputs select the divide ratio at FB_OUT output. See Table 1 on page 1.", 29 FB_OUT (out) "Feedback clock output. Connect to FB_IN for normal operation. The divider ratio for this output is set by FB_SEL(0:2). See Table 1 on page 1. A bypass delay capacitor at this output will control Input Reference/ Output Banks (See Datasheet)", 31 FB_IN (in) "Feedback clock input. Connect to FB_OUT for accessing the PLL.", 32 QB3 (out) "Clock outputs. See Table 2 on page 5 for frequency selections.", 34 QB2 (out) "Clock outputs. See Table 2 on page 5 for frequency selections.", 36 QB1 (out) "Clock outputs. See Table 2 on page 5 for frequency selections.", 38 QB0 (out) "Clock outputs. See Table 2 on page 5 for frequency selections.", 40 SELB1 (in) "Frequency select inputs. These inputs select the divider ratio at QB(0:3) outputs. See Table 2 on page 5.", 41 SELB0 (in) "Frequency select inputs. These inputs select the divider ratio at QB(0:3) outputs. See Table 2 on page 5.", 42 SELA1 (in) "Frequency select inputs. These inputs select the divider ratio at QA(0:3) outputs. See Table 2 on page 5.", 43 SELA0 (in) "Frequency select inputs. These inputs select the divider ratio at QA(0:3) outputs. See Table 2 on page 5.", 44 QA3 (out) "Clock outputs. See Table 2 on page 5 for frequency selections.", 46 QA2 (out) "Clock outputs. See Table 2 on page 5 for frequency selections.", 48 QA1 (out) "Clock outputs. See Table 2 on page 5 for frequency selections.", 50 QA0 (out) "Clock outputs. See Table 2 on page 5 for frequency selections.", 52 VCO_SEL (in) "VCO divider select input. When set LOW, the VCO output is divided by 2. When set HIGH, the divider is bypassed. See Table 1 on page 1."
part B pins: 1 VSS (power) "Common ground.", 13 VDD (power) "3.3 V power supply for PLL.", 15 VSS (power) "Common ground.", 17 VDDC (power) "3.3 V power supply for output clock buffers.", 22 VDDC (power) "3.3 V power supply for output clock buffers.", 24 VSS (power) "Common ground.", 28 VDDC (power) "3.3 V power supply for output clock buffers.", 30 VSS (power) "Common ground.", 33 VDDC (power) "3.3 V power supply for output clock buffers.", 35 VSS (power) "Common ground.", 37 VDDC (power) "3.3 V power supply for output clock buffers.", 39 VSS (power) "Common ground.", 45 VDDC (power) "3.3 V power supply for output clock buffers.", 47 VSS (power) "Common ground.", 49 VDDC (power) "3.3 V power supply for output clock buffers.", 51 VSS (power) "Common ground."

## CY29976AXI
designator U?
Multi-Output Zero Delay Buffer, 3.3 V, 12 Outputs, 125 MHz Maximum, -40 to 85 degC, 52-Pin PLCC (AX52), Tube; Manufacturer: Cypress; PartNumber: CY29976AXI; Input Frequency Max. (MHz): 125; Max. Operating Voltage (V): 3.63; Min. Operating Voltage (V): 2.97; No. of Outputs: 12; DatasheetVersion: Rev. *E; PackageVersion: Rev. *C, 08/2012; PackageReference: AX52; PackageDescription: 52-Pin Thin Plastic Quad Flatpack, Body 10 x10 mm, Pitch 0.65 mm; Supplier 1: Digi-Key; Supplier Part Number 1: CY29976AXI-ND; Supplier 2: Mouser; Supplier Part Number 2: 727-CY29976AXI; Max. Operating Temp. (degreesC): 85; Min. Operating Temp. (degreesC): -40; Output Frequency Max. (MHz): 125; Packing: Tube; RoHS: Pb-Free; Mounting Technology: Surface Mount; ComponentLink1Description: Manufacturer URL; ComponentLink1URL: http://www.cypress.com/; ComponentLink2Description: Datasheet; ComponentLink2URL: http://www.cypress.com/?docID=34830; ComponentLink3Description: Package Specification; ComponentLink3URL: http://www.cypress.com/?docID=39099
footprint CYP-AX52-51-85131_N (QFP, 52-Leads, Body 10x10mm, Pitch 0.65mm, IPC Medium Density)
footprint CYP-AX52-51-85131_L (QFP, 52-Leads, Body 10x10mm, Pitch 0.65mm, IPC High Density)
footprint CYP-AX52-51-85131_M (QFP, 52-Leads, Body 10x10mm, Pitch 0.65mm, IPC Low Density)
part A pins: 2 MR#/OE (in) "Master reset/output enable input. When asserted LOW, resets all of the internal flip-flops and also disables all of the outputs. When pulled high, releases the internal flip-flops from reset and enables all of the outputs.", 3 SCLK (in) "Serial clock input. Clocks data at SDATA into the internal register.", 4 SDATA (in) "Serial data input. Input data is clocked to the internal register to enable/disable individual outputs. This provides flexibility in power management.", 5 FB_SEL2 (in) "Feedback select inputs. These inputs select the divide ratio at FB_OUT output. See Table 1 on page 1.", 6 PLL_EN (in) "PLL enable input. When asserted HIGH, PLL is enabled; when LOW, PLL is bypassed.", 7 REF_SEL (in) "Reference select input. When HIGH, the crystal oscillator is selected; when LOW, TCLK (0,1) is the reference clock.", 8 TCLK_SEL (in) "TCLK select input. When LOW, TCLK0 is selected and when HIGH TCLK1 is selected.", 9 TCLK0 (in) "External reference/test clock input.", 10 TCLK1 (in) "External reference/test clock input.", 11 XIN "Oscillator input. Connect to a crystal.", 12 XOUT "Oscillator output. Connect to a crystal.", 14 INV_CLK (in) "Inverted clock input. When set HIGH, QC(2,3) outputs are inverted. When set LOW, the inverter is bypassed.", 16 QC3 (out) "Clock outputs. See Table 2 on page 5 for frequency selections.", 18 QC2 (out) "Clock outputs. See Table 2 on page 5 for frequency selections.", 19 SELC1 (in) "Frequency select inputs. These inputs select the divider ratio at QC(0:3) outputs. See Table 2 on page 5.", 20 SELC0 (in) "Frequency select inputs. These inputs select the divider ratio at QC(0:3) outputs. See Table 2 on page 5.", 21 QC1 (out) "Clock outputs. See Table 2 on page 5 for frequency selections.", 23 QC0 (out) "Clock outputs. See Table 2 on page 5 for frequency selections.", 25 SYNC (out) "Synchronous pulse output. This output is used for system synchronization. The rising edge of the output pulse is in sync with both the rising edges of QA(0:3) and QC(0:3) output clocks regardless of the divider ratios (See Datasheet)", 26 FB_SEL1 (in) "Feedback select inputs. These inputs select the divide ratio at FB_OUT output. See Table 1 on page 1.", 27 FB_SEL0 (in) "Feedback select inputs. These inputs select the divide ratio at FB_OUT output. See Table 1 on page 1.", 29 FB_OUT (out) "Feedback clock output. Connect to FB_IN for normal operation. The divider ratio for this output is set by FB_SEL(0:2). See Table 1 on page 1. A bypass delay capacitor at this output will control Input Reference/ Output Banks (See Datasheet)", 31 FB_IN (in) "Feedback clock input. Connect to FB_OUT for accessing the PLL.", 32 QB3 (out) "Clock outputs. See Table 2 on page 5 for frequency selections.", 34 QB2 (out) "Clock outputs. See Table 2 on page 5 for frequency selections.", 36 QB1 (out) "Clock outputs. See Table 2 on page 5 for frequency selections.", 38 QB0 (out) "Clock outputs. See Table 2 on page 5 for frequency selections.", 40 SELB1 (in) "Frequency select inputs. These inputs select the divider ratio at QB(0:3) outputs. See Table 2 on page 5.", 41 SELB0 (in) "Frequency select inputs. These inputs select the divider ratio at QB(0:3) outputs. See Table 2 on page 5.", 42 SELA1 (in) "Frequency select inputs. These inputs select the divider ratio at QA(0:3) outputs. See Table 2 on page 5.", 43 SELA0 (in) "Frequency select inputs. These inputs select the divider ratio at QA(0:3) outputs. See Table 2 on page 5.", 44 QA3 (out) "Clock outputs. See Table 2 on page 5 for frequency selections.", 46 QA2 (out) "Clock outputs. See Table 2 on page 5 for frequency selections.", 48 QA1 (out) "Clock outputs. See Table 2 on page 5 for frequency selections.", 50 QA0 (out) "Clock outputs. See Table 2 on page 5 for frequency selections.", 52 VCO_SEL (in) "VCO divider select input. When set LOW, the VCO output is divided by 2. When set HIGH, the divider is bypassed. See Table 1 on page 1."
part B pins: 1 VSS (power) "Common ground.", 13 VDD (power) "3.3 V power supply for PLL.", 15 VSS (power) "Common ground.", 17 VDDC (power) "3.3 V power supply for output clock buffers.", 22 VDDC (power) "3.3 V power supply for output clock buffers.", 24 VSS (power) "Common ground.", 28 VDDC (power) "3.3 V power supply for output clock buffers.", 30 VSS (power) "Common ground.", 33 VDDC (power) "3.3 V power supply for output clock buffers.", 35 VSS (power) "Common ground.", 37 VDDC (power) "3.3 V power supply for output clock buffers.", 39 VSS (power) "Common ground.", 45 VDDC (power) "3.3 V power supply for output clock buffers.", 47 VSS (power) "Common ground.", 49 VDDC (power) "3.3 V power supply for output clock buffers.", 51 VSS (power) "Common ground."

## CY29976AXIT
designator U?
Multi-Output Zero Delay Buffer, 3.3 V, 12 Outputs, 125 MHz Maximum, -40 to 85 degC, 52-Pin PLCC (AX52), Tape and Reel; Manufacturer: Cypress; PartNumber: CY29976AXIT; Input Frequency Max. (MHz): 125; Max. Operating Voltage (V): 3.63; Min. Operating Voltage (V): 2.97; No. of Outputs: 12; DatasheetVersion: Rev. *E; PackageVersion: Rev. *C, 08/2012; PackageReference: AX52; PackageDescription: 52-Pin Thin Plastic Quad Flatpack, Body 10 x10 mm, Pitch 0.65 mm; Supplier 1: Digi-Key; Supplier Part Number 1: CY29976AXIT-ND; Supplier 2: Mouser; Supplier Part Number 2: 727-CY29976AXIT; Max. Operating Temp. (degreesC): 85; Min. Operating Temp. (degreesC): -40; Output Frequency Max. (MHz): 125; Packing: Tape and Reel; RoHS: Pb-Free; Mounting Technology: Surface Mount; ComponentLink1Description: Manufacturer URL; ComponentLink1URL: http://www.cypress.com/; ComponentLink2Description: Datasheet; ComponentLink2URL: http://www.cypress.com/?docID=34830; ComponentLink3Description: Package Specification; ComponentLink3URL: http://www.cypress.com/?docID=39099
footprint CYP-AX52-51-85131_N (QFP, 52-Leads, Body 10x10mm, Pitch 0.65mm, IPC Medium Density)
footprint CYP-AX52-51-85131_L (QFP, 52-Leads, Body 10x10mm, Pitch 0.65mm, IPC High Density)
footprint CYP-AX52-51-85131_M (QFP, 52-Leads, Body 10x10mm, Pitch 0.65mm, IPC Low Density)
part A pins: 2 MR#/OE (in) "Master reset/output enable input. When asserted LOW, resets all of the internal flip-flops and also disables all of the outputs. When pulled high, releases the internal flip-flops from reset and enables all of the outputs.", 3 SCLK (in) "Serial clock input. Clocks data at SDATA into the internal register.", 4 SDATA (in) "Serial data input. Input data is clocked to the internal register to enable/disable individual outputs. This provides flexibility in power management.", 5 FB_SEL2 (in) "Feedback select inputs. These inputs select the divide ratio at FB_OUT output. See Table 1 on page 1.", 6 PLL_EN (in) "PLL enable input. When asserted HIGH, PLL is enabled; when LOW, PLL is bypassed.", 7 REF_SEL (in) "Reference select input. When HIGH, the crystal oscillator is selected; when LOW, TCLK (0,1) is the reference clock.", 8 TCLK_SEL (in) "TCLK select input. When LOW, TCLK0 is selected and when HIGH TCLK1 is selected.", 9 TCLK0 (in) "External reference/test clock input.", 10 TCLK1 (in) "External reference/test clock input.", 11 XIN "Oscillator input. Connect to a crystal.", 12 XOUT "Oscillator output. Connect to a crystal.", 14 INV_CLK (in) "Inverted clock input. When set HIGH, QC(2,3) outputs are inverted. When set LOW, the inverter is bypassed.", 16 QC3 (out) "Clock outputs. See Table 2 on page 5 for frequency selections.", 18 QC2 (out) "Clock outputs. See Table 2 on page 5 for frequency selections.", 19 SELC1 (in) "Frequency select inputs. These inputs select the divider ratio at QC(0:3) outputs. See Table 2 on page 5.", 20 SELC0 (in) "Frequency select inputs. These inputs select the divider ratio at QC(0:3) outputs. See Table 2 on page 5.", 21 QC1 (out) "Clock outputs. See Table 2 on page 5 for frequency selections.", 23 QC0 (out) "Clock outputs. See Table 2 on page 5 for frequency selections.", 25 SYNC (out) "Synchronous pulse output. This output is used for system synchronization. The rising edge of the output pulse is in sync with both the rising edges of QA(0:3) and QC(0:3) output clocks regardless of the divider ratios (See Datasheet)", 26 FB_SEL1 (in) "Feedback select inputs. These inputs select the divide ratio at FB_OUT output. See Table 1 on page 1.", 27 FB_SEL0 (in) "Feedback select inputs. These inputs select the divide ratio at FB_OUT output. See Table 1 on page 1.", 29 FB_OUT (out) "Feedback clock output. Connect to FB_IN for normal operation. The divider ratio for this output is set by FB_SEL(0:2). See Table 1 on page 1. A bypass delay capacitor at this output will control Input Reference/ Output Banks (See Datasheet)", 31 FB_IN (in) "Feedback clock input. Connect to FB_OUT for accessing the PLL.", 32 QB3 (out) "Clock outputs. See Table 2 on page 5 for frequency selections.", 34 QB2 (out) "Clock outputs. See Table 2 on page 5 for frequency selections.", 36 QB1 (out) "Clock outputs. See Table 2 on page 5 for frequency selections.", 38 QB0 (out) "Clock outputs. See Table 2 on page 5 for frequency selections.", 40 SELB1 (in) "Frequency select inputs. These inputs select the divider ratio at QB(0:3) outputs. See Table 2 on page 5.", 41 SELB0 (in) "Frequency select inputs. These inputs select the divider ratio at QB(0:3) outputs. See Table 2 on page 5.", 42 SELA1 (in) "Frequency select inputs. These inputs select the divider ratio at QA(0:3) outputs. See Table 2 on page 5.", 43 SELA0 (in) "Frequency select inputs. These inputs select the divider ratio at QA(0:3) outputs. See Table 2 on page 5.", 44 QA3 (out) "Clock outputs. See Table 2 on page 5 for frequency selections.", 46 QA2 (out) "Clock outputs. See Table 2 on page 5 for frequency selections.", 48 QA1 (out) "Clock outputs. See Table 2 on page 5 for frequency selections.", 50 QA0 (out) "Clock outputs. See Table 2 on page 5 for frequency selections.", 52 VCO_SEL (in) "VCO divider select input. When set LOW, the VCO output is divided by 2. When set HIGH, the divider is bypassed. See Table 1 on page 1."
part B pins: 1 VSS (power) "Common ground.", 13 VDD (power) "3.3 V power supply for PLL.", 15 VSS (power) "Common ground.", 17 VDDC (power) "3.3 V power supply for output clock buffers.", 22 VDDC (power) "3.3 V power supply for output clock buffers.", 24 VSS (power) "Common ground.", 28 VDDC (power) "3.3 V power supply for output clock buffers.", 30 VSS (power) "Common ground.", 33 VDDC (power) "3.3 V power supply for output clock buffers.", 35 VSS (power) "Common ground.", 37 VDDC (power) "3.3 V power supply for output clock buffers.", 39 VSS (power) "Common ground.", 45 VDDC (power) "3.3 V power supply for output clock buffers.", 47 VSS (power) "Common ground.", 49 VDDC (power) "3.3 V power supply for output clock buffers.", 51 VSS (power) "Common ground."